# EAGLE library part RB1-125BAG1A (library magjack)
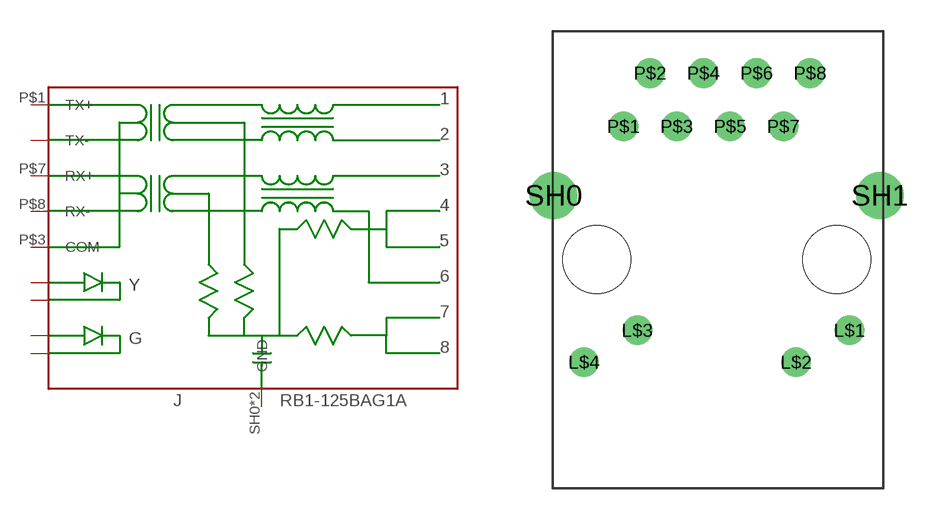
[diagram p0: symbol with the pads of RB1-125BAG1A; footprint RB1-125BAG1A]

Designator prefix J

## RB1-125BAG1A  [RB1-125BAG1A]
L$1  L$1
L$2  L$2
L$3  L$3
L$4  L$4
P$1  TX+
P$2  TX-
P$3  COM
P$7  RX+
P$8  RX-
SH0  GND
SH1  GND

## Footprint RB1-125BAG1A (pad centres in mm)
drill 0.9: L$1 6.325,-3.38; L$2 3.785,-4.9; L$3 -3.785,-3.38; L$4 -6.325,-4.9; P$1 -4.445,6.35; P$2 -3.175,8.89; P$3 -1.905,6.35; P$4 -0.635,8.89; P$5 0.635,6.35; P$6 1.905,8.89; P$7 3.175,6.35; P$8 4.445,8.89
drill 1.5: SH0 -7.775,3.05; SH1 7.775,3.05
hole 3.25 at -5.715,0
hole 3.25 at 5.715,0